# EAGLE library part MICRO-USB (library perspection)
Connector Receptacle USB - micro B 2.0 5 Position Surface Mount, Right Angle, Horizontal Digi-key page <http://www.digikey.com/product-detail/en/10118192-0001LF/609-4613-1-ND/2785378>
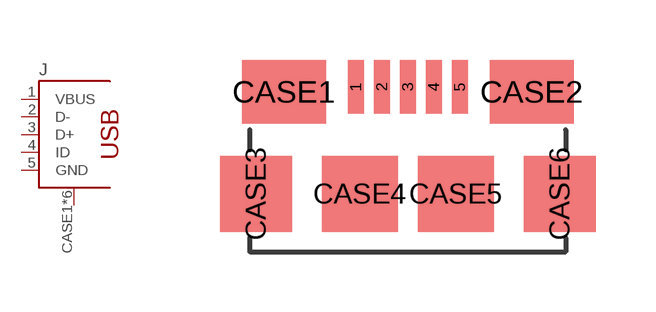
[diagram p16: symbol with the pads of MICRO-USB; footprint MICRO-USB]

Designator prefix J

## MICRO-USB-10118192-0001LF (DIST_NAME: Digi-Key; DIST_PN: 609-4613-1-ND; MFG_NAME: FCI; MFG_PN: 10118192-0001LF)  [MICRO-USB]
1  VBUS
2  D-
3  D+
4  ID
5  GND
CASE1  MTN4
CASE2  MTN4
CASE3  MTN4
CASE4  MTN4
CASE5  MTN4
CASE6  MTN4

## Footprint MICRO-USB (pad centres in mm)
http://portal.fciconnect.com/Comergent//fci/drawing/10118192.pdf
smd 0.4 x 1.35: 1 -1.3,4.125; 2 -0.65,4.125; 3 0,4.125; 4 0.65,4.125; 5 1.3,4.125
smd 2.1 x 1.6: CASE1 -3.1,4; CASE2 3.1,4
smd 1.8 x 1.9: CASE3 -3.8,1.45; CASE6 3.8,1.45
smd 1.9 x 1.9: CASE4 -1.2,1.45; CASE5 1.2,1.45